# Altium footprint library DIP.PcbLib: 1 footprints
Each footprint in its own frame and in the unit in brackets; x right, y up, seen from the top. Pads: shape width x height; smd on the part's side, far side on the other; paste and mask are expansions set on the pad; w line width, h text height; cw(c..) or ccw(c..) is an arc to the next point about the centre after c.
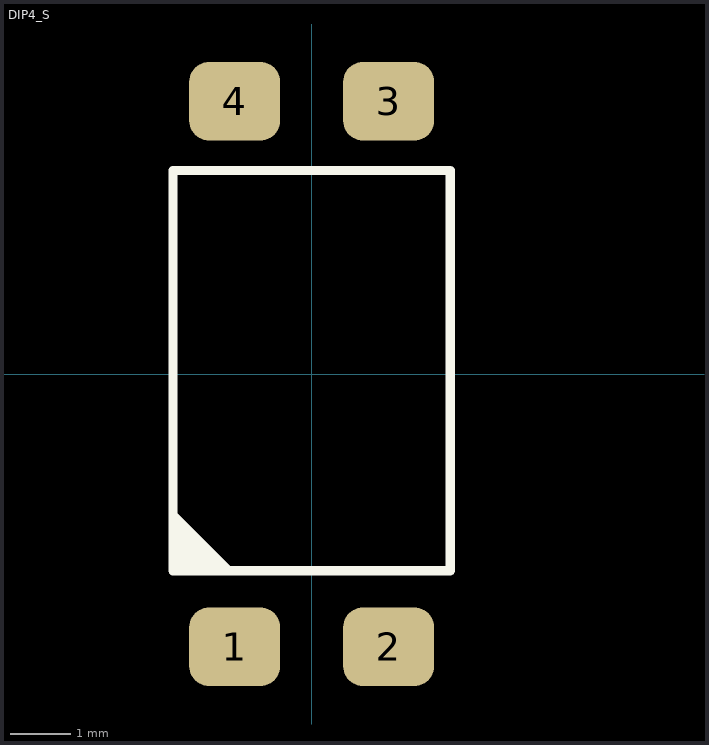
[diagram p0: the footprint, top view; thin cyan lines are the x and y axes]

## DIP4_S [mm]
pads (4):
  rrect50% 1.5x1.3 smd: 1(-1.27,-4.5) 2(1.27,-4.5) 3(1.27,4.5) 4(-1.27,4.5)
Top Overlay:
  region: 3.683,2.722
  region: -2.286,-3.247 -2.286,-2.231 -1.27,-3.247
  lines w0.15: -2.286,-3.247 2.286,-3.247 2.286,3.357 -2.286,3.357 -2.286,-3.247
3D body "User Library-PC817_Gullwing.STEP": height 3.85, standoff 0, extent -2.29,-4.996 2.29,5.004